# EAGLE library part HIROSE_DF17_80_ONESIDE (library greghale_eib_preamp)
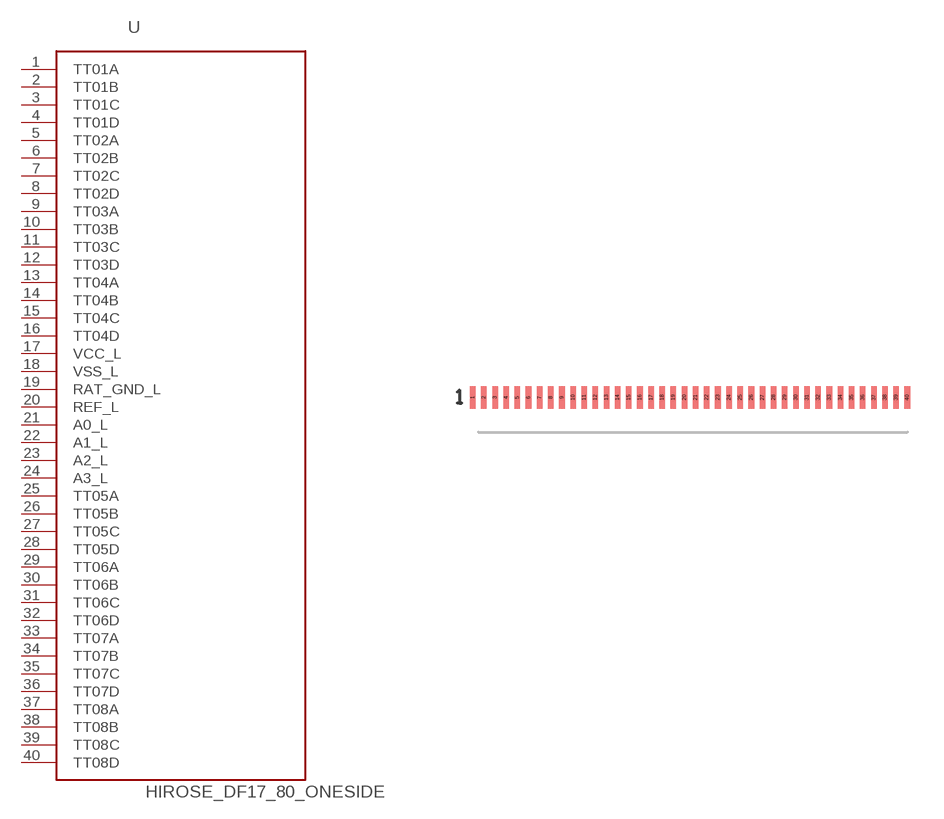
[diagram p6: symbol with the pads of HIROSE_DF17_40_ONESIDE; footprint HIROSE_DF17_40_ONESIDE]

Designator prefix -

## HIROSE_DF17_80_ONESIDEOS  [HIROSE_DF17_40_ONESIDE]
1  TT01A
2  TT01B
3  TT01C
4  TT01D
5  TT02A
6  TT02B
7  TT02C
8  TT02D
9  TT03A
10  TT03B
11  TT03C
12  TT03D
13  TT04A
14  TT04B
15  TT04C
16  TT04D
17  VCC_L
18  VSS_L
19  RAT_GND_L
20  REF_L
21  A0_L
22  A1_L
23  A2_L
24  A3_L
25  TT05A
26  TT05B
27  TT05C
28  TT05D
29  TT06A
30  TT06B
31  TT06C
32  TT06D
33  TT07A
34  TT07B
35  TT07C
36  TT07D
37  TT08A
38  TT08B
39  TT08C
40  TT08D

## Footprint HIROSE_DF17_40_ONESIDE (pad centres in mm)
smd 0.25 x 1: 1 -9.75,0.35; 2 -9.25,0.35; 3 -8.75,0.35; 4 -8.25,0.35; 5 -7.75,0.35; 6 -7.25,0.35; 7 -6.75,0.35; 8 -6.25,0.35; 9 -5.75,0.35; 10 -5.25,0.35; 11 -4.75,0.35; 12 -4.25,0.35; 13 -3.75,0.35; 14 -3.25,0.35; 15 -2.75,0.35; 16 -2.25,0.35; 17 -1.75,0.35; 18 -1.25,0.35; 19 -0.75,0.35; 20 -0.25,0.35; 21 0.25,0.35; 22 0.75,0.35; 23 1.25,0.35; 24 1.75,0.35; 25 2.25,0.35; 26 2.75,0.35; 27 3.25,0.35; 28 3.75,0.35; 29 4.25,0.35; 30 4.75,0.35; 31 5.25,0.35; 32 5.75,0.35; 33 6.25,0.35; 34 6.75,0.35; 35 7.25,0.35; 36 7.75,0.35; 37 8.25,0.35; 38 8.75,0.35; 39 9.25,0.35; 40 9.75,0.35